# EAGLE library part ATA6561 (library CAN)
The Atmel® ATA6560/ATA6561 is a high-speed CAN transceiver that provides an interface between a controller area network (CAN) protocol controller and the physical two-wire CAN bus. The transceiver is designed for high-speed (up to 5Mbit/s) CAN applications in the automotive industry, providing differential transmit and receive capability to (a microcontroller with) a CAN protocol controller. It offers improved electromagnetic compatibility (EMC) and electrostatic discharge (ESD) performance, as well as features such as: ● Ideal passive behavior to the CAN bus when the supply voltage is off ● Direct interfacing to microcontrollers with supply voltages from 3V to 5V (ATA6561) Three operating modes together with the dedicated fail-safe features make the Atmel ATA6560/ATA6561 an excellent choice for all types of high- speed CAN networks, especially in nodes requiring low-power mode with wake-up capability via the CAN bus.
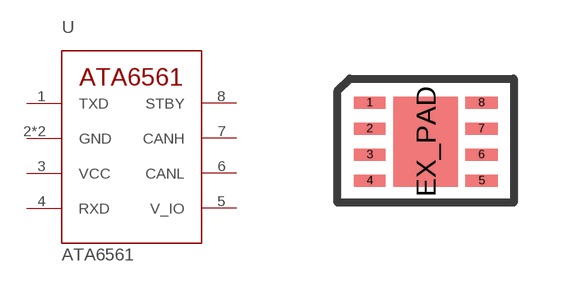
[diagram p2: symbol with the pads of DFN8(3X3); footprint DFN8(3X3)]

Designator prefix U

## ATA6561  [DFN8(3X3)]
1  TXD
2  GND  pwr
3  VCC  pwr
4  RXD
5  V_IO
6  CANL
7  CANH
8  STBY
EX_PAD  GND  pwr

## Footprint DFN8(3X3) (pad centres in mm)
smd 0.8 x 0.3: 1 0,0; 2 0,-0.65; 3 0,-1.3; 4 0,-1.95; 5 2.8,-1.95; 6 2.8,-1.3; 7 2.8,-0.65; 8 2.8,0
smd 1.6 x 2.25: EX_PAD 1.4,-0.975